# Altium schematic symbol library SCH - FET - N-CH - NEXPERIA BUK LFPAK MOSFET N-CH.Schlib: 1 symbol
Pins are listed as number, name and electrical type; pins without a type are passive.

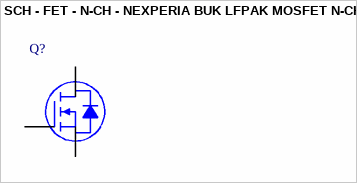
[diagram p0: symbol SCH - FET - N-CH - NEXPERIA BUK LFPAK MOSFET N-CH]

## SCH - FET - N-CH - NEXPERIA BUK LFPAK MOSFET N-CH
designator Q?
footprint SOT669, MO-235 (TO, 5-Pads, Body 5,15x5,86mm (max), IPC Medium Density)
pins: 1 S, 2 S, 3 S, 4 G, 5 D